# EAGLE library part 6551 (library commodore)
This lib is created by Ruud Baltissen.
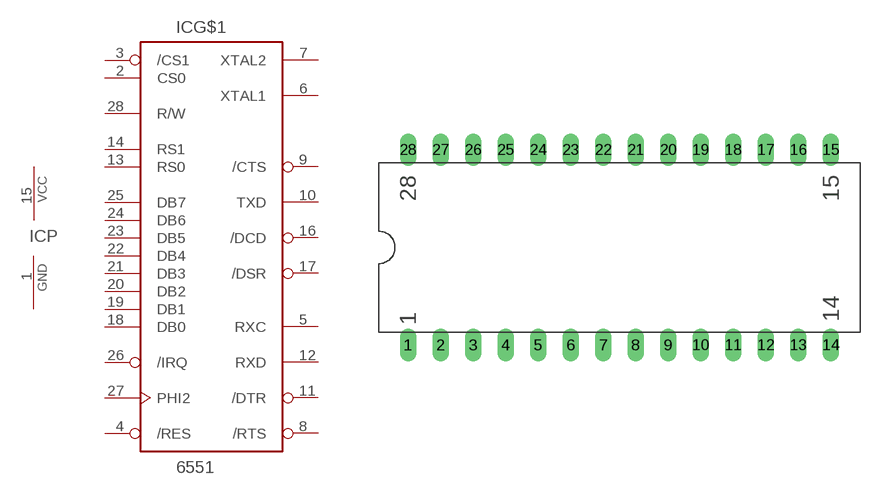
[diagram p20: symbol with the pads of DIP28; footprint DIP28]

Designator prefix IC; gates G$1=6551 P=PWRN

## 6551  [DIP28]
1  P:GND  pwr
2  G$1:CS0  in
3  G$1:/CS1  in
4  G$1:/RES  in
5  G$1:RXC
6  G$1:XTAL1
7  G$1:XTAL2
8  G$1:/RTS  out
9  G$1:/CTS  in
10  G$1:TXD  out
11  G$1:/DTR  out
12  G$1:RXD  in
13  G$1:RS0  in
14  G$1:RS1  in
15  P:VCC  pwr
16  G$1:/DCD  in
17  G$1:/DSR  in
18  G$1:DB0
19  G$1:DB1
20  G$1:DB2
21  G$1:DB3
22  G$1:DB4
23  G$1:DB5
24  G$1:DB6
25  G$1:DB7
26  G$1:/IRQ  oc
27  G$1:PHI2  in
28  G$1:R/W  in

## Footprint DIP28 (pad centres in mm)
drill 0.61 pad 1.27 long: 1 -16.51,-7.62; 2 -13.97,-7.62; 3 -11.43,-7.62; 4 -8.89,-7.62; 5 -6.35,-7.62; 6 -3.81,-7.62; 7 -1.27,-7.62; 8 1.27,-7.62; 9 3.81,-7.62; 10 6.35,-7.62; 11 8.89,-7.62; 12 11.43,-7.62; 13 13.97,-7.62; 14 16.51,-7.62; 15 16.51,7.62; 16 13.97,7.62; 17 11.43,7.62; 18 8.89,7.62; 19 6.35,7.62; 20 3.81,7.62; 21 1.27,7.62; 22 -1.27,7.62; 23 -3.81,7.62; 24 -6.35,7.62; 25 -8.89,7.62; 26 -11.43,7.62; 27 -13.97,7.62; 28 -16.51,7.62